# Altium schematic symbol library SCH - MCU - STM32 - ST MICROELECTRONICS STM32L151RDYX WLCSP64.SchLib: 1 symbol
Pins are listed as number, name and electrical type; pins without a type are passive.

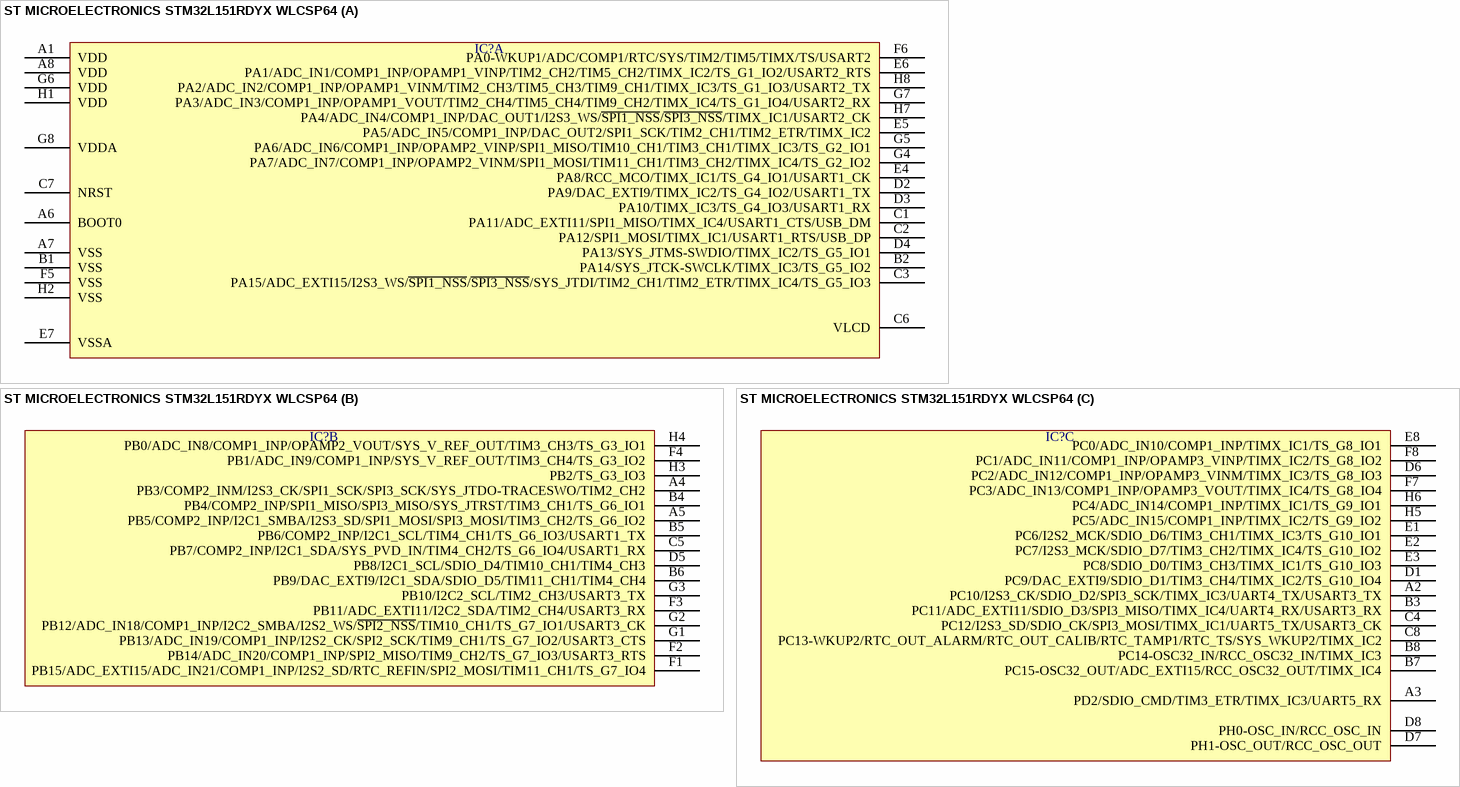
[diagram p0: symbol ST MICROELECTRONICS STM32L151RDYX WLCSP64]

## ST MICROELECTRONICS STM32L151RDYX WLCSP64
designator IC?  (value not drawn)
part A pins: A1 VDD, A6 BOOT0, A7 VSS, A8 VDD, B1 VSS, B2 PA14/SYS_JTCK-SWCLK/TIMX_IC3/TS_G5_IO2, C1 PA11/ADC_EXTI11/SPI1_MISO/TIMX_IC4/USART1_CTS/USB_DM, C2 PA12/SPI1_MOSI/TIMX_IC1/USART1_RTS/USB_DP, C3 PA15/ADC_EXTI15/I2S3_WS/~{SPI1_NSS}/~{SPI3_NSS}/SYS_JTDI/TIM2_CH1/TIM2_ETR/TIMX_IC4/TS_G5_IO3, C6 VLCD, C7 NRST, D2 PA9/DAC_EXTI9/TIMX_IC2/TS_G4_IO2/USART1_TX, D3 PA10/TIMX_IC3/TS_G4_IO3/USART1_RX, D4 PA13/SYS_JTMS-SWDIO/TIMX_IC2/TS_G5_IO1, E4 PA8/RCC_MCO/TIMX_IC1/TS_G4_IO1/USART1_CK, E5 PA5/ADC_IN5/COMP1_INP/DAC_OUT2/SPI1_SCK/TIM2_CH1/TIM2_ETR/TIMX_IC2, E6 PA1/ADC_IN1/COMP1_INP/OPAMP1_VINP/TIM2_CH2/TIM5_CH2/TIMX_IC2/TS_G1_IO2/USART2_RTS, E7 VSSA, F5 VSS, F6 PA0-WKUP1/ADC/COMP1/RTC/SYS/TIM2/TIM5/TIMX/TS/USART2, G4 PA7/ADC_IN7/COMP1_INP/OPAMP2_VINM/SPI1_MOSI/TIM11_CH1/TIM3_CH2/TIMX_IC4/TS_G2_IO2, G5 PA6/ADC_IN6/COMP1_INP/OPAMP2_VINP/SPI1_MISO/TIM10_CH1/TIM3_CH1/TIMX_IC3/TS_G2_IO1, G6 VDD, G7 PA3/ADC_IN3/COMP1_INP/OPAMP1_VOUT/TIM2_CH4/TIM5_CH4/TIM9_CH2/TIMX_IC4/TS_G1_IO4/USART2_RX, G8 VDDA, H1 VDD, H2 VSS, H7 PA4/ADC_IN4/COMP1_INP/DAC_OUT1/I2S3_WS/~{SPI1_NSS}/~{SPI3_NSS}/TIMX_IC1/USART2_CK, H8 PA2/ADC_IN2/COMP1_INP/OPAMP1_VINM/TIM2_CH3/TIM5_CH3/TIM9_CH1/TIMX_IC3/TS_G1_IO3/USART2_TX
part B pins: A4 PB3/COMP2_INM/I2S3_CK/SPI1_SCK/SPI3_SCK/SYS_JTDO-TRACESWO/TIM2_CH2, A5 PB5/COMP2_INP/I2C1_SMBA/I2S3_SD/SPI1_MOSI/SPI3_MOSI/TIM3_CH2/TS_G6_IO2, B4 PB4/COMP2_INP/SPI1_MISO/SPI3_MISO/SYS_JTRST/TIM3_CH1/TS_G6_IO1, B5 PB6/COMP2_INP/I2C1_SCL/TIM4_CH1/TS_G6_IO3/USART1_TX, B6 PB9/DAC_EXTI9/I2C1_SDA/SDIO_D5/TIM11_CH1/TIM4_CH4, C5 PB7/COMP2_INP/I2C1_SDA/SYS_PVD_IN/TIM4_CH2/TS_G6_IO4/USART1_RX, D5 PB8/I2C1_SCL/SDIO_D4/TIM10_CH1/TIM4_CH3, F1 PB15/ADC_EXTI15/ADC_IN21/COMP1_INP/I2S2_SD/RTC_REFIN/SPI2_MOSI/TIM11_CH1/TS_G7_IO4, F2 PB14/ADC_IN20/COMP1_INP/SPI2_MISO/TIM9_CH2/TS_G7_IO3/USART3_RTS, F3 PB11/ADC_EXTI11/I2C2_SDA/TIM2_CH4/USART3_RX, F4 PB1/ADC_IN9/COMP1_INP/SYS_V_REF_OUT/TIM3_CH4/TS_G3_IO2, G1 PB13/ADC_IN19/COMP1_INP/I2S2_CK/SPI2_SCK/TIM9_CH1/TS_G7_IO2/USART3_CTS, G2 PB12/ADC_IN18/COMP1_INP/I2C2_SMBA/I2S2_WS/~{SPI2_NSS}/TIM10_CH1/TS_G7_IO1/USART3_CK, G3 PB10/I2C2_SCL/TIM2_CH3/USART3_TX, H3 PB2/TS_G3_IO3, H4 PB0/ADC_IN8/COMP1_INP/OPAMP2_VOUT/SYS_V_REF_OUT/TIM3_CH3/TS_G3_IO1
part C pins: A2 PC10/I2S3_CK/SDIO_D2/SPI3_SCK/TIMX_IC3/UART4_TX/USART3_TX, A3 PD2/SDIO_CMD/TIM3_ETR/TIMX_IC3/UART5_RX, B3 PC11/ADC_EXTI11/SDIO_D3/SPI3_MISO/TIMX_IC4/UART4_RX/USART3_RX, B7 PC15-OSC32_OUT/ADC_EXTI15/RCC_OSC32_OUT/TIMX_IC4, B8 PC14-OSC32_IN/RCC_OSC32_IN/TIMX_IC3, C4 PC12/I2S3_SD/SDIO_CK/SPI3_MOSI/TIMX_IC1/UART5_TX/USART3_CK, C8 PC13-WKUP2/RTC_OUT_ALARM/RTC_OUT_CALIB/RTC_TAMP1/RTC_TS/SYS_WKUP2/TIMX_IC2, D1 PC9/DAC_EXTI9/SDIO_D1/TIM3_CH4/TIMX_IC2/TS_G10_IO4, D6 PC2/ADC_IN12/COMP1_INP/OPAMP3_VINM/TIMX_IC3/TS_G8_IO3, D7 PH1-OSC_OUT/RCC_OSC_OUT, D8 PH0-OSC_IN/RCC_OSC_IN, E1 PC6/I2S2_MCK/SDIO_D6/TIM3_CH1/TIMX_IC3/TS_G10_IO1, E2 PC7/I2S3_MCK/SDIO_D7/TIM3_CH2/TIMX_IC4/TS_G10_IO2, E3 PC8/SDIO_D0/TIM3_CH3/TIMX_IC1/TS_G10_IO3, E8 PC0/ADC_IN10/COMP1_INP/TIMX_IC1/TS_G8_IO1, F7 PC3/ADC_IN13/COMP1_INP/OPAMP3_VOUT/TIMX_IC4/TS_G8_IO4, F8 PC1/ADC_IN11/COMP1_INP/OPAMP3_VINP/TIMX_IC2/TS_G8_IO2, H5 PC5/ADC_IN15/COMP1_INP/TIMX_IC2/TS_G9_IO2, H6 PC4/ADC_IN14/COMP1_INP/TIMX_IC1/TS_G9_IO1